# Altium schematic symbol library Passive.SchLib: 11 symbols
Pins are listed as number, name and electrical type; pins without a type are passive.

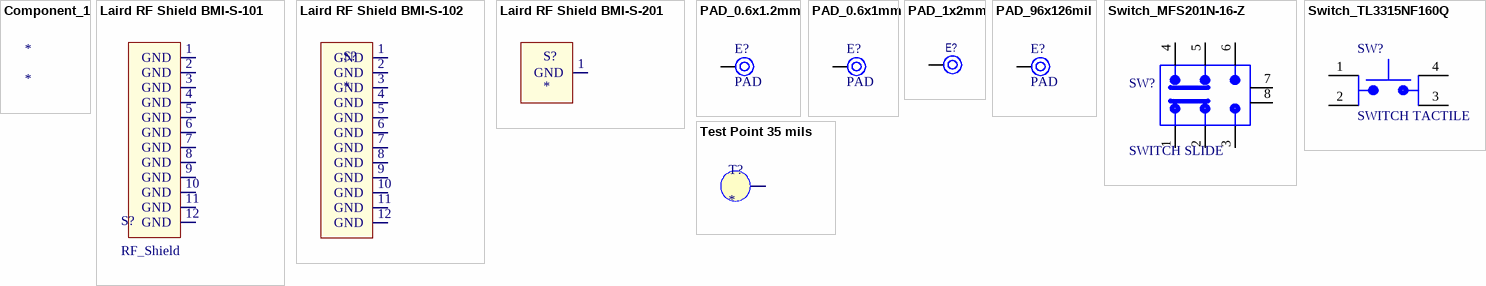
[diagram p0: symbols Component_1 to Test Point 35 mils]

## Component_1
designator *

## Laird RF Shield BMI-S-101
designator S?, comment RF_Shield
SHIELD 13.66mm x 12.7mm 1 piece; Manufacturer: Laird; Manufacturer Part Number: BMI-S-101; Product Training Modules: EMI Board Level Shield; Catalog Drawings: BMI-S Series; Ventilation: Vent Holes in Pattern; Online Catalog: One-Piece Surface Mount Shields; Other Names: 903-1006-2 / BMIS101; TZOA PN: 274-00002; Supplier 1: Digi-Key; Stock 1: 65675; Pricing 1: 1=1.05, 10=0.929, 25=0.8392, 100=0.7342, 250=0.6443, 500=0.5694 (USD); Standard Package: 1,000; Category: RF/IF and RFID; Family: RF Shields; Packaging: Tape & Reel (TR); Type: 1 Piece; Height - Overall: 0.100" (2.54mm); Length - Overall: 0.538" (13.66mm); Width - Overall: 0.476" (12.10mm); Mounting Type: Solder; ComponentLink1URL: http://www.lairdtech.com/brandworld/library/EMI-CAT-Essentials%201213.pdf; ComponentLink1Description: http://www.lairdtech.com/brandworld/library/EMI-CAT-Essentials%201213.pdf; Supplier Part Number 1: 903-1006-1-ND
footprint BMI-S-201 (RF Shield)
pins: 1 GND, 2 GND, 3 GND, 4 GND, 5 GND, 6 GND, 7 GND, 8 GND, 9 GND, 10 GND, 11 GND, 12 GND

## Laird RF Shield BMI-S-102
designator S?
Shield, 16.5 x 16.5 x 3.6 mm, SMD; Manufacturer: Laird; Manufacturer Part Number: BMI-S-102; TZOA PN: 274-00001; Product Training Modules: EMI Board Level Shield; Catalog Drawings: BMI-S Series; Ventilation: Vent Holes in Pattern; Online Catalog: One-Piece Surface Mount Shields; Other Names: 903-1007-2 / BMIS102; Supplier 1: Digi-Key; Stock 1: 27903; Pricing 1: 1=2.05, 10=1.854, 25=1.6552, 100=1.4898, 250=1.3243 (USD); Standard Package: 700; Category: RF/IF and RFID; Family: RF Shields; Packaging: Cut Tape (CT); Type: 1 Piece; Height - Overall: 0.142" (3.60mm); Length - Overall: 0.650" (16.50mm); Width - Overall: 0.650" (16.50mm); Mounting Type: Solder; ComponentLink1URL: http://www.lairdtech.com/brandworld/library/EMI-CAT-Essentials%201213.pdf; ComponentLink1Description: http://www.lairdtech.com/brandworld/library/EMI-CAT-Essentials%201213.pdf; Supplier Part Number 1: 903-1007-1-ND
footprint BMI-S-102 (RF Shield)
pins: 1 GND, 2 GND, 3 GND, 4 GND, 5 GND, 6 GND, 7 GND, 8 GND, 9 GND, 10 GND, 11 GND, 12 GND

## Laird RF Shield BMI-S-201
designator S?
Manufacturer: Laird Technologies EMI; Manufacturer Part Number: BMI-S-201-F; Supplier 1: Digi-Key; Supplier Part Number 1: 903-1050-1-ND; RoHS: RoHS Compliant; Category: RF/IF and RFID; Stock: 23453; Pricing: 1=1.96, 10=1.742, 25=1.572, 100=1.3754, 250=1.20624, 500=1.06976 (CAD); Packaging: Cut Tape (CT); Part Status: Active; Type: Frame; Height - Overall: 0.100" (2.54mm); Length - Overall: 0.538" (13.66mm); Width - Overall: 0.500" (12.70mm); Ventilation: -; Mounting Type: Solder; ComponentLink1URL: http://media.digikey.com/pdf/Data%20Sheets/Laird%20Technologies/BMI-S-201-F_Dwg.pdf; ComponentLink1Description: http://media.digikey.com/pdf/Data%20Sheets/Laird%20Technologies/BMI-S-201-F_Dwg.pdf
footprint BMI-S-201 (RF Shield)
pins: 1 GND

## PAD_0.6x1.2mm
designator E?, comment PAD
PAD,Drill 0.6mm, Pad 1.2mm; P/N: No P/N Required; UM: EA
footprint PAD_0.6x1.2mm
pins: 1

## PAD_0.6x1mm
designator E?, comment PAD
PAD,Drill 0.6mm, Pad 1mm; P/N: No P/N Required; UM: EA
footprint PAD_0.6x1mm
pins: 1

## PAD_1x2mm
designator E?, comment PAD  (value not drawn)
PAD,Drill 1mm, Pad 2mm; P/N: No P/N Required; UM: EA
footprint PAD_1x2mm
pins: 1

## PAD_96x126mil
designator E?, comment PAD
PAD,Drill 3mm, Pad 5mm; P/N: No P/N Required
footprint PAD_96x126mil
pins: 1

## Switch_MFS201N-16-Z
designator SW?, comment SWITCH SLIDE
SWITCH SLIDE DPDT 1A 125V; Manufacturer: Nidec Copal; Manufacturer Part Number: MFS201N-16-Z; Contact Timing: Non-Shorting (BBM); Switch Function: On-On; Current Rating: 1A (AC/DC); Voltage Rating - DC: 30V; Actuator Type: Standard; Actuator Length: 7.10mm; Switch Travel: 3.00mm; Electrical Life: 5,000 Cycles; Operating Force: 300gf; Supplier 1: Digi-Key; Stock 1: 925; Pricing 1: 1=1.11, 10=1.062, 25=1.0396, 50=0.929, 100=0.8848, 250=0.8626, 500=0.7299, 1000=0.7078, 5000=0.6193 (USD); Category: Switches; Family: Slide Switches; Series: MFS; Packaging: Bulk; Circuit: DPDT; Voltage Rating - AC: 125V; Contact Material: -; Contact Finish: -; Mounting Type: Through Hole, Right Angle; Termination Style: PC Pin; Features: -; Actuator Material: -; Operating Temperature: -10°C ~ 70°C; Mechanical Life: -; Supplier Part Number 1: 563-1558-ND
footprint SWITCH_MFS201N-16-Z (Switch tactile SPST-NO)
pins: 1, 2, 3, 4, 5, 6, 7, 8

## Switch_TL3315NF160Q
designator SW?, comment SWITCH TACTILE
SWITCH TACTILE SPST-NO 0.05A 15V; Manufacturer: E-Switch; Manufacturer Part Number: TL3315NF160Q; Actuator Length: 0 mm; Body Orientation: Straight; Actuator Style: Flush Round Button; Ground Terminal: No; Electrical Life: 500000 Cycles; Dielectric Strength: 250 VAC; Contact Rating @ Voltage: 0.05@15VDC A; Pole Throw Configuration: SPST; Illumination Type: N/R; Maximum Contact Resistance: 200 mOhm; Operating Force: 1.57 N; Minimum Insulation Resistance: 50 MOhm; Switch Configuration: N.O.; Supplier 1: Digikey; Stock 1: 147838; Pricing 1: 1=0.19, 10=0.185, 25=0.1788, 50=0.1722, 100=0.1627, 250=0.1531, 500=0.1467, 1000=0.1117 (USD); Actuator Color: N/A; Contact Material: N/A; Base Material: N/A; Family: TL3315; Contact Plating: Silver; Housing Material: N/A; Dimension: 4.5 x 4.75 x 0.6 mm; Part No: TL3315NF160Q; RoHS: Yes; Maximum AC Voltage Rating: N/A; Maximum DC Voltage Rating: 15 V; Seal Description: N/A; Mechanical Life: N/A; Packaging: N/A; Product Weight: N/A; Mounting: Surface Mount,Gull Wing; Operating Temperature: -20 to 70 C; Type: Low Profile; Seal Location: N/A; ComponentLink1URL: https://datasheet.ciiva.com/2900/p010337b-2900753.pdf; ComponentLink1Description: https://datasheet.ciiva.com/2900/p010337b-2900753.pdf; ComponentLink2URL: https://datasheet.ciiva.com/2900/tl3315-2900754.pdf; ComponentLink2Description: https://datasheet.ciiva.com/2900/tl3315-2900754.pdf; ComponentLink3URL: https://datasheet.ciiva.com/7637/tl3315-7637634.pdf; ComponentLink3Description: https://datasheet.ciiva.com/7637/tl3315-7637634.pdf; ComponentLink4URL: https://datasheet.ciiva.com/2900/tl3315-2900755.pdf; ComponentLink4Description: https://datasheet.ciiva.com/2900/tl3315-2900755.pdf; ComponentLink5URL: https://datasheet.ciiva.com/16156/tl3315-16156333.pdf; ComponentLink5Description: https://datasheet.ciiva.com/16156/tl3315-16156333.pdf; Supplier Part Number 1: EG4621CT-ND
footprint SWITCH_TL3315 (Switch tactile SPST-NO)
pins: 1, 2, 3, 4

## Test Point 35 mils
designator T?
footprint Test Point 35mils
footprint Test Point 25mil
pins: 1